# Altium footprint library GeneratedFootprints.PcbLib: 29 footprints (part 1 of 2)
Each footprint in its own frame and in the unit in brackets; x right, y up, seen from the top. Pads: shape width x height; smd on the part's side, far side on the other; paste and mask are expansions set on the pad; w line width, h text height; cw(c..) or ccw(c..) is an arc to the next point about the centre after c.
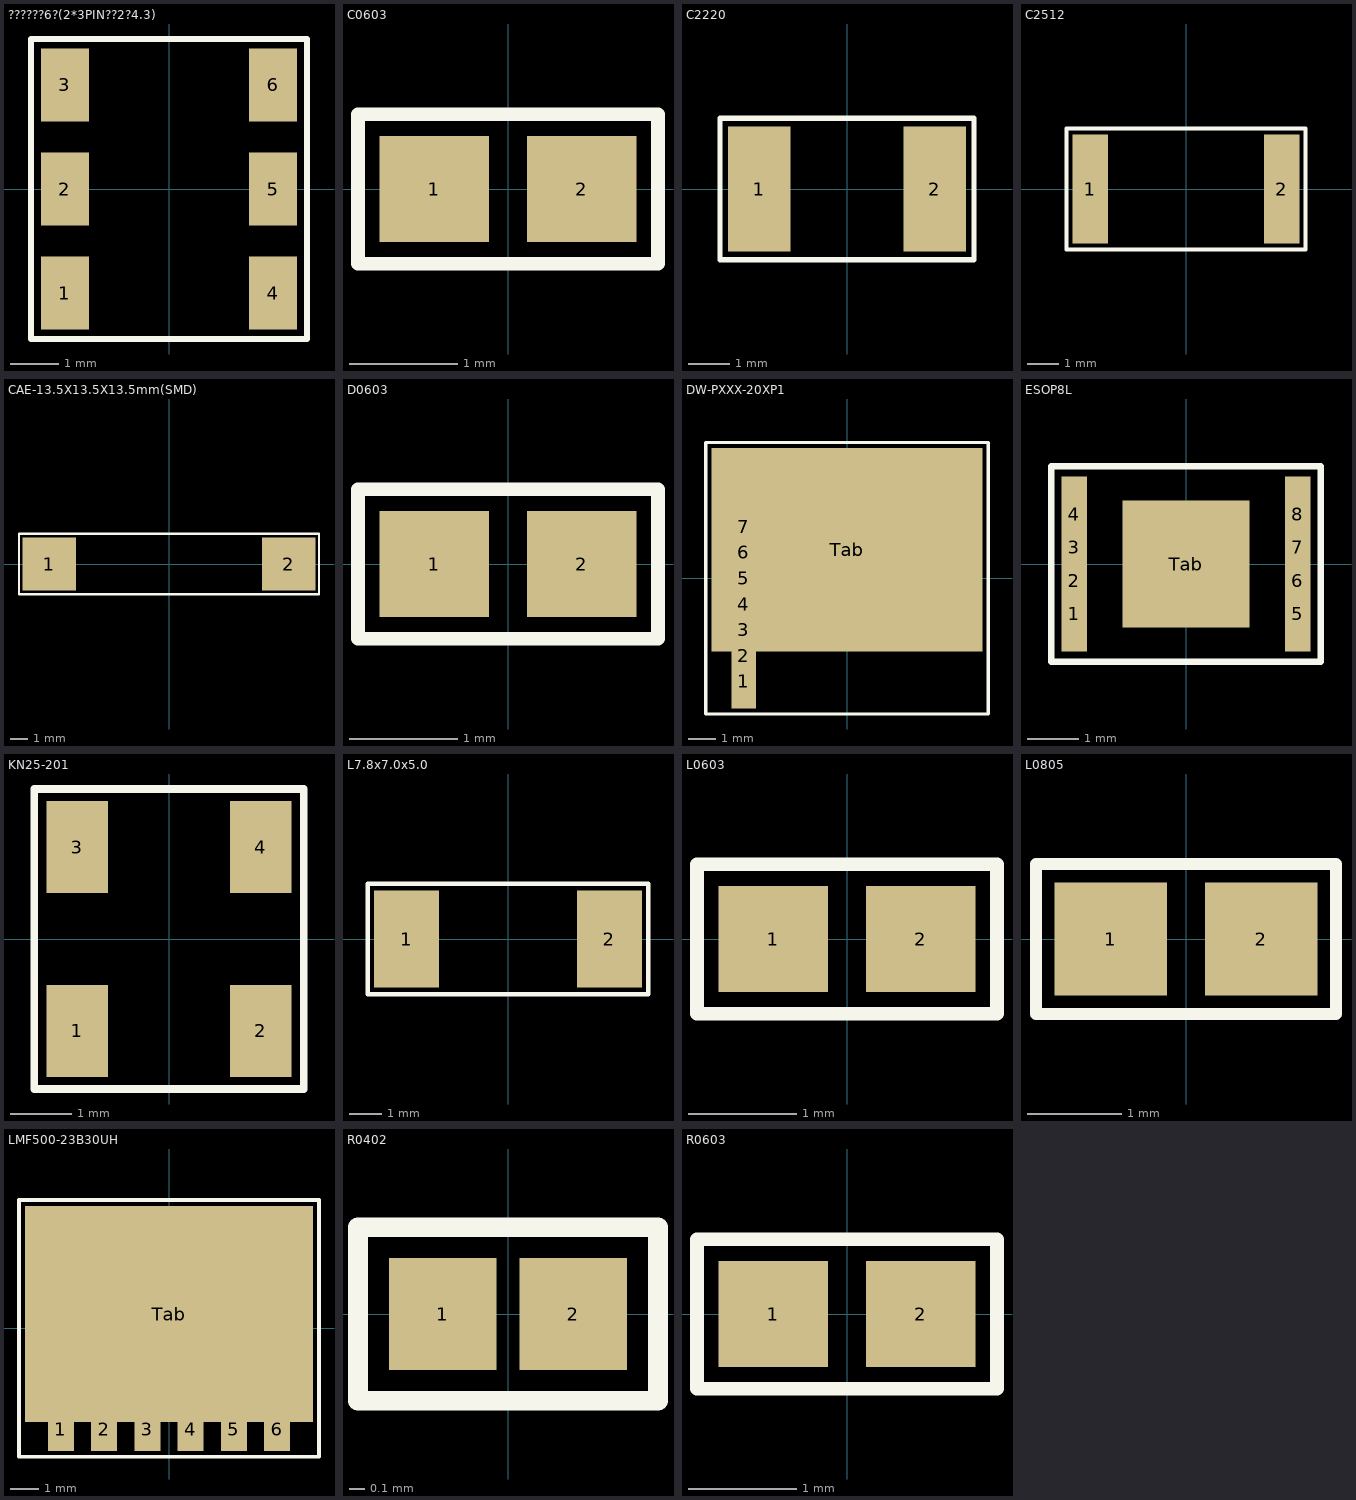
[diagram p0: the footprints below, top view; thin cyan lines are the x and y axes]

## ??????6?(2*3PIN??2?4.3) [mm]
pads (6):
  rect 1x1.5 smd: 1(-2.15,-2.15) 2(-2.15,0) 3(-2.15,2.15) 4(2.15,-2.15) 5(2.15,0) 6(2.15,2.15)
Top Overlay:
  lines w0.127: -2.85,-3.1 2.85,-3.1 2.85,3.1 -2.85,3.1 -2.85,-3.1

## C0603 [mm]
pads (2):
  rect 1.01x0.98 smd: 1(-0.68,0) 2(0.68,0)
Top Overlay:
  lines w0.127: -1.385,-0.69 1.385,-0.69 1.385,0.69 -1.385,0.69 -1.385,-0.69

## C2220 [mm]
pads (2):
  rect 1.5x3 smd: 1(-2.1,0) 2(2.1,0)
Top Overlay:
  lines w0.127: -3.05,-1.7 3.05,-1.7 3.05,1.7 -3.05,1.7 -3.05,-1.7

## C2512 [mm]
pads (2):
  rect 1.11x3.43 smd: 1(-3.02,0) 2(3.02,0)
Top Overlay:
  lines w0.127: -3.775,-1.915 3.775,-1.915 3.775,1.915 -3.775,1.915 -3.775,-1.915

## CAE-13.5X13.5X13.5mm(SMD) [mm]
pads (2):
  rect 3x3 smd: 1(-6.75,0) 2(6.75,0)
Top Overlay:
  lines w0.127: -8.45,-1.7 8.45,-1.7 8.45,1.7 -8.45,1.7 -8.45,-1.7

## D0603 [mm]
pads (2):
  rect 1.01x0.98 smd: 1(-0.68,0) 2(0.68,0)
Top Overlay:
  lines w0.127: -1.385,-0.69 1.385,-0.69 1.385,0.69 -1.385,0.69 -1.385,-0.69

## DW-PXXX-20XP1 [mm]
pads (8):
  rect 0.9x2 smd: 1(-3.8,-3.8) 2(-3.8,-2.85) 3(-3.8,-1.9) 4(-3.8,-0.95) 5(-3.8,0) 6(-3.8,0.95) 7(-3.8,1.9)
  rect 10x7.5 smd: Tab(0,1.05)
Top Overlay:
  lines w0.127: -5.2,-5 5.2,-5 5.2,5 -5.2,5 -5.2,-5

## ESOP8L [mm]
pads (9):
  rect 0.5x1.5 smd: 1(-2.2,-0.975) 2(-2.2,-0.325) 3(-2.2,0.325) 4(-2.2,0.975) 5(2.2,-0.975) 6(2.2,-0.325) 7(2.2,0.325) 8(2.2,0.975)
  rect 2.5x2.5 smd: Tab(0,0)
Top Overlay:
  lines w0.127: -2.65,-1.925 2.65,-1.925 2.65,1.925 -2.65,1.925 -2.65,-1.925

## KN25-201 [mm]
pads (4):
  rect 1x1.5 smd: 1(-1.5,-1.5) 2(1.5,-1.5) 3(-1.5,1.5) 4(1.5,1.5)
Top Overlay:
  lines w0.127: -2.2,-2.45 2.2,-2.45 2.2,2.45 -2.2,2.45 -2.2,-2.45

## L7.8x7.0x5.0 [mm]
pads (2):
  rect 2x3 smd: 1(-3.12,0) 2(3.12,0)
Top Overlay:
  lines w0.127: -4.32,-1.7 4.32,-1.7 4.32,1.7 -4.32,1.7 -4.32,-1.7

## L0603 [mm]
pads (2):
  rect 1.01x0.98 smd: 1(-0.68,0) 2(0.68,0)
Top Overlay:
  lines w0.127: -1.385,-0.69 1.385,-0.69 1.385,0.69 -1.385,0.69 -1.385,-0.69

## L0805 [mm]
pads (2):
  rect 1.2x1.2 smd: 1(-0.8,0) 2(0.8,0)
Top Overlay:
  lines w0.127: -1.6,-0.8 1.6,-0.8 1.6,0.8 -1.6,0.8 -1.6,-0.8

## LMF500-23B30UH [mm]
pads (7):
  rect 0.9x1.5 smd: 1(-3.75,-3.5) 2(-2.25,-3.5) 3(-0.75,-3.5) 4(0.75,-3.5) 5(2.25,-3.5) 6(3.75,-3.5)
  rect 10x7.5 smd: Tab(0,0.5)
Top Overlay:
  lines w0.127: -5.2,-4.45 5.2,-4.45 5.2,4.45 -5.2,4.45 -5.2,-4.45

## PCBComponent_1 [mm]

## R0402 [mm]
pads (2):
  rect 0.7x0.73 smd: 1(-0.425,0) 2(0.425,0)
Top Overlay:
  lines w0.127: -0.975,-0.565 0.975,-0.565 0.975,0.565 -0.975,0.565 -0.975,-0.565

## R0603 [mm]
pads (2):
  rect 1.01x0.98 smd: 1(-0.68,0) 2(0.68,0)
Top Overlay:
  lines w0.127: -1.385,-0.69 1.385,-0.69 1.385,0.69 -1.385,0.69 -1.385,-0.69